# Altium schematic symbol library TwoFoot_Schlib.SchLib: 24 symbols
Pins are listed as number, name and electrical type; pins without a type are passive.

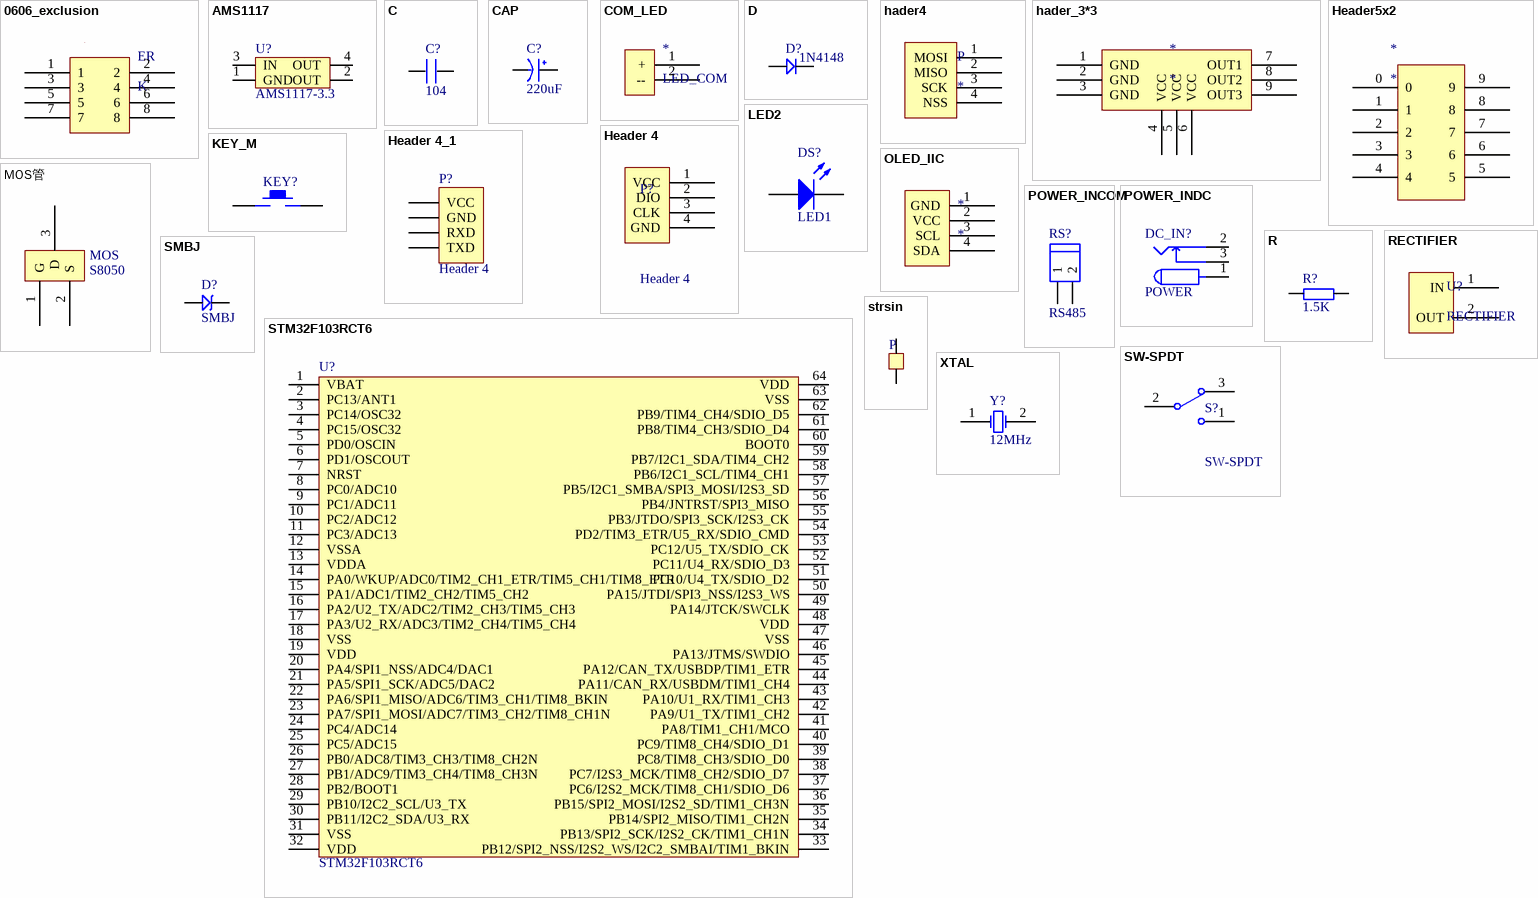
[diagram p0: symbols 0606_exclusion to XTAL]

## 0606_exclusion
designator ER, comment K
排阻
footprint Model Name (Model Description)
footprint Model Name (Model Description)
pins: 1, 2, 3, 4, 5, 6, 7, 8

## AMS1117
designator U?, comment AMS1117-3.3
footprint AMS1117
pins: 1 GND, 2 OUT, 3 IN, 4 OUT

## C
designator C?, comment 104
footprint 0603P
pins: 1, 2

## CAP
designator C?, comment 220uF
footprint Cap1000uF
pins: 1 VCC, 2 GND

## COM_LED
designator *, comment LED_COM
footprint HDR2 (LED_COM)
pins: 1 +, 2 --

## D
designator D?, comment 1N4148
footprint DIODE_SOP (二极管)
pins: 1, 2

## hader4
designator P
NSS
footprint HDR1X4 _NSS (SPI)
pins: 1 MOSI, 2 MISO, 3 SCK, 4 NSS

## hader_3*3
designator *
footprint heard3X3
pins: 1 GND, 2 GND, 3 GND, 4 VCC, 5 VCC, 6 VCC, 7 OUT1, 8 OUT2, 9 OUT3

## Header5x2
designator *
pins: 0, 1, 2, 3, 4, 5, 6, 7, 8, 9

## Header 4
designator P?
SWD; LatestRevisionDate: 17-Jul-2002; LatestRevisionNote: Re-released for DXP Platform.; Publisher: Altium Limited
footprint HDR1X4 _S (SWD)
pins: 1 VCC, 2 DIO, 3 CLK, 4 GND

## Header 4_1
designator P?, comment Header 4
串口; LatestRevisionDate: 17-Jul-2002; LatestRevisionNote: Re-released for DXP Platform.; Publisher: Altium Limited
footprint HDR1X4 (串口)
pins: 1 VCC, 2 GND, 3 RXD, 4 TXD

## KEY_M
designator KEY?  (value not drawn)
footprint SW_PB2_A1
pins: 1, 2

## LED2
designator DS?, comment LED1
Typical RED, GREEN, YELLOW, AMBER GaAs LED; Published: 8-Jun-2000; LatestRevisionDate: 17-Jul-2002; LatestRevisionNote: Re-released for DXP Platform.; PackageDocument: Feb-2002; PackageReference: 3.2X1.6X1.1; Publisher: Altium Limited
footprint SMDLED
pins: 1 A, 2 K

## MOS管
designator MOS, comment S8050
footprint SOT-23R (MOS管)
pins: 1 G, 2 S, 3 D

## OLED_IIC
designator *
footprint HDR1X4 _OLED (OLED)
pins: 1 GND, 2 VCC, 3 SCL, 4 SDA

## POWER_INCOM
designator RS?, comment RS485
footprint POWER_INCOM (双端子)
pins: 1, 2

## POWER_INDC
designator DC_IN?, comment POWER
footprint POWER_INDC (DC电源座)
pins: 1, 2, 3

## R
designator R?, comment 1.5K
footprint 0603P
pins: 1, 2

## RECTIFIER
designator U?
整流桥
footprint RECTIFIER (整流桥)
pins: 1 IN, 2 OUT

## SMBJ
designator D?
保险管5.0A
footprint SMBJ (保险管)
pins: 1, 2

## STM32F103RCT6
designator U?
footprint LQFP64 (32103RCT6)
pins: 1 VBAT, 2 PC13/ANT1, 3 PC14/OSC32, 4 PC15/OSC32, 5 PD0/OSCIN, 6 PD1/OSCOUT, 7 NRST, 8 PC0/ADC10, 9 PC1/ADC11, 10 PC2/ADC12, 11 PC3/ADC13, 12 VSSA, 13 VDDA, 14 PA0/WKUP/ADC0/TIM2_CH1_ETR/TIM5_CH1/TIM8_ETR, 15 PA1/ADC1/TIM2_CH2/TIM5_CH2, 16 PA2/U2_TX/ADC2/TIM2_CH3/TIM5_CH3, 17 PA3/U2_RX/ADC3/TIM2_CH4/TIM5_CH4, 18 VSS, 19 VDD, 20 PA4/SPI1_NSS/ADC4/DAC1, 21 PA5/SPI1_SCK/ADC5/DAC2, 22 PA6/SPI1_MISO/ADC6/TIM3_CH1/TIM8_BKIN, 23 PA7/SPI1_MOSI/ADC7/TIM3_CH2/TIM8_CH1N, 24 PC4/ADC14, 25 PC5/ADC15, 26 PB0/ADC8/TIM3_CH3/TIM8_CH2N, 27 PB1/ADC9/TIM3_CH4/TIM8_CH3N, 28 PB2/BOOT1, 29 PB10/I2C2_SCL/U3_TX, 30 PB11/I2C2_SDA/U3_RX, 31 VSS, 32 VDD, 33 PB12/SPI2_NSS/I2S2_WS/I2C2_SMBAI/TIM1_BKIN, 34 PB13/SPI2_SCK/I2S2_CK/TIM1_CH1N, 35 PB14/SPI2_MISO/TIM1_CH2N, 36 PB15/SPI2_MOSI/I2S2_SD/TIM1_CH3N, 37 PC6/I2S2_MCK/TIM8_CH1/SDIO_D6, 38 PC7/I2S3_MCK/TIM8_CH2/SDIO_D7, 39 PC8/TIM8_CH3/SDIO_D0, 40 PC9/TIM8_CH4/SDIO_D1, 41 PA8/TIM1_CH1/MCO, 42 PA9/U1_TX/TIM1_CH2, 43 PA10/U1_RX/TIM1_CH3, 44 PA11/CAN_RX/USBDM/TIM1_CH4, 45 PA12/CAN_TX/USBDP/TIM1_ETR, 46 PA13/JTMS/SWDIO, 47 VSS, 48 VDD, 49 PA14/JTCK/SWCLK, 50 PA15/JTDI/SPI3_NSS/I2S3_WS, 51 PC10/U4_TX/SDIO_D2, 52 PC11/U4_RX/SDIO_D3, 53 PC12/U5_TX/SDIO_CK, 54 PD2/TIM3_ETR/U5_RX/SDIO_CMD, 55 PB3/JTDO/SPI3_SCK/I2S3_CK, 56 PB4/JNTRST/SPI3_MISO, 57 PB5/I2C1_SMBA/SPI3_MOSI/I2S3_SD, 58 PB6/I2C1_SCL/TIM4_CH1, 59 PB7/I2C1_SDA/TIM4_CH2, 60 BOOT0, 61 PB8/TIM4_CH3/SDIO_D4, 62 PB9/TIM4_CH4/SDIO_D5, 63 VSS, 64 VDD

## strsin
designator P  (value not drawn)
应变片
footprint STRAIN (应变片)
pins: 1, 2

## SW-SPDT
designator S?
开关; Published: 24-Mar-1999; LatestRevisionDate: 17-Dec-2003; LatestRevisionNote: Schematic revised, PCB Footprint replaced.; DatasheetDocument: 05-Dec-2000; PackageReference: TL36WW15050; Publisher: Altium Limited; ComponentLink1Description: Manufacturer Link; ComponentLink1URL: http://www.apem.com
footprint 纽子开关
pins: 1, 2, 3

## XTAL
designator Y?, comment 12MHz
Crystal Oscillator; Published: 8-Jun-2000; LatestRevisionDate: 17-Jul-2002; LatestRevisionNote: Re-released for DXP Platform.; Publisher: Altium Limited
footprint XTAL_US (8M晶振)
footprint XTAL32 (32.768K晶振)
pins: 1 OSC1, 2 OSC2